# Altium schematic symbol library con-phoenix-350.SCHLIB: 23 symbols
Pins are listed as number, name and electrical type; pins without a type are passive.

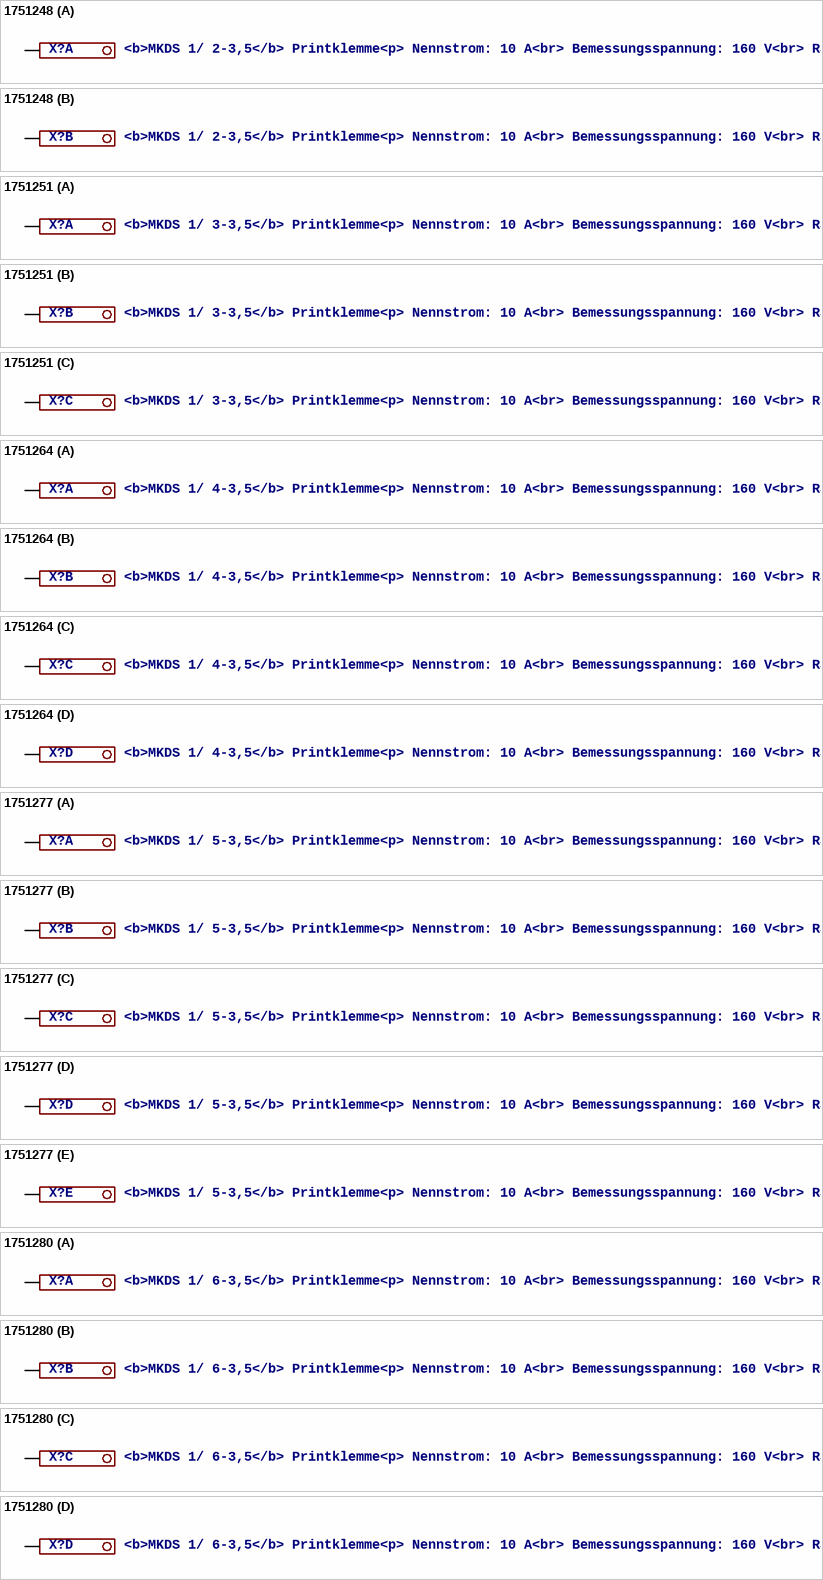
[diagram p0: symbols 1751248 to 1751280]

## 1751248
designator X?, comment <b>MKDS 1/ 2-3,5</b> Printklemme<p> / Nennstrom: 10 A<br> / Bemessungsspannung: 160 V<br> / Raster: 3,5 mm<br> / Polzahl: 2<br> / Montageart: Löten<br> / Anschlussart: Schraubanschluss<br> / Anschlussrichtung vom Leiter zur Platine: 0°<br> / Source: http://eshop.phoenixcontact.com .. 1751248.pdf
OC_FARNELL: unknown; OC_NEWARK: unknown
footprint 1751248
part A pins: 1 K
part B pins: 2 K

## 1751251
designator X?, comment <b>MKDS 1/ 3-3,5</b> Printklemme<p> / Nennstrom: 10 A<br> / Bemessungsspannung: 160 V<br> / Raster: 3,5 mm<br> / Polzahl: 3<br> / Montageart: Löten<br> / Anschlussart: Schraubanschluss<br> / Anschlussrichtung vom Leiter zur Platine: 0°<br> / Source: http://eshop.phoenixcontact.com .. 1751251.pdf
OC_FARNELL: unknown; OC_NEWARK: unknown
footprint 1751251
part A pins: 1 K
part B pins: 2 K
part C pins: 3 K

## 1751264
designator X?, comment <b>MKDS 1/ 4-3,5</b> Printklemme<p> / Nennstrom: 10 A<br> / Bemessungsspannung: 160 V<br> / Raster: 3,5 mm<br> / Polzahl: 4<br> / Montageart: Löten<br> / Anschlussart: Schraubanschluss<br> / Anschlussrichtung vom Leiter zur Platine: 0°<br> / Source: http://eshop.phoenixcontact.com .. 1751264.pdf
MPN: 1751264; OC_FARNELL: unknown; OC_NEWARK: 10R0934
footprint 1751264
part A pins: 1 K
part B pins: 2 K
part C pins: 3 K
part D pins: 4 K

## 1751277
designator X?, comment <b>MKDS 1/ 5-3,5</b> Printklemme<p> / Nennstrom: 10 A<br> / Bemessungsspannung: 160 V<br> / Raster: 3,5 mm<br> / Polzahl: 5<br> / Montageart: Löten<br> / Anschlussart: Schraubanschluss<br> / Anschlussrichtung vom Leiter zur Platine: 0°<br> / Source: http://eshop.phoenixcontact.com .. 1751277.pdf
OC_FARNELL: unknown; OC_NEWARK: unknown
footprint 1751277
part A pins: 1 K
part B pins: 2 K
part C pins: 3 K
part D pins: 4 K
part E pins: 5 K

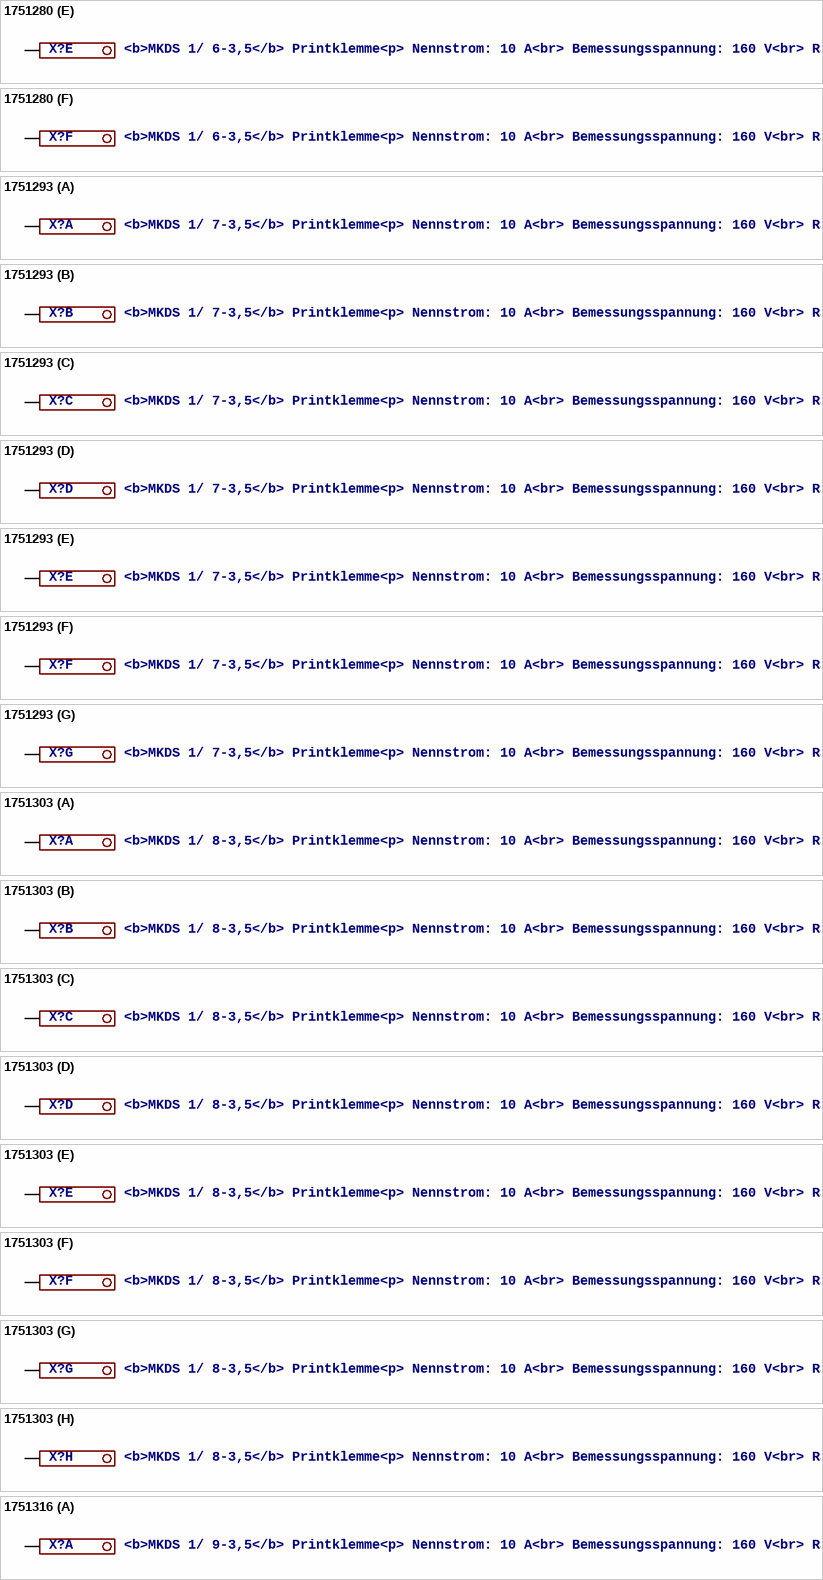
[diagram p1: symbols 1751280 to 1751316]

## 1751280
designator X?, comment <b>MKDS 1/ 6-3,5</b> Printklemme<p> / Nennstrom: 10 A<br> / Bemessungsspannung: 160 V<br> / Raster: 3,5 mm<br> / Polzahl: 6<br> / Montageart: Löten<br> / Anschlussart: Schraubanschluss<br> / Anschlussrichtung vom Leiter zur Platine: 0°<br> / Source: http://eshop.phoenixcontact.com .. 1751280.pdf
MPN: 1751280; OC_FARNELL: unknown; OC_NEWARK: 27R1765
footprint 1751280
part A pins: 1 K
part B pins: 2 K
part C pins: 3 K
part D pins: 4 K
part E pins: 5 K
part F pins: 6 K

## 1751293
designator X?, comment <b>MKDS 1/ 7-3,5</b> Printklemme<p> / Nennstrom: 10 A<br> / Bemessungsspannung: 160 V<br> / Raster: 3,5 mm<br> / Polzahl: 7<br> / Montageart: Löten<br> / Anschlussart: Schraubanschluss<br> / Anschlussrichtung vom Leiter zur Platine: 0°<br> / Source: http://eshop.phoenixcontact.com .. 1751293.pdf
OC_FARNELL: unknown; OC_NEWARK: unknown
footprint 1751293
part A pins: 1 K
part B pins: 2 K
part C pins: 3 K
part D pins: 4 K
part E pins: 5 K
part F pins: 6 K
part G pins: 7 K

## 1751303
designator X?, comment <b>MKDS 1/ 8-3,5</b> Printklemme<p> / Nennstrom: 10 A<br> / Bemessungsspannung: 160 V<br> / Raster: 3,5 mm<br> / Polzahl: 8<br> / Montageart: Löten<br> / Anschlussart: Schraubanschluss<br> / Anschlussrichtung vom Leiter zur Platine: 0°<br> / Source: http://eshop.phoenixcontact.com .. .pdf
OC_FARNELL: unknown; OC_NEWARK: unknown
footprint 1751303
part A pins: 1 K
part B pins: 2 K
part C pins: 3 K
part D pins: 4 K
part E pins: 5 K
part F pins: 6 K
part G pins: 7 K
part H pins: 8 K

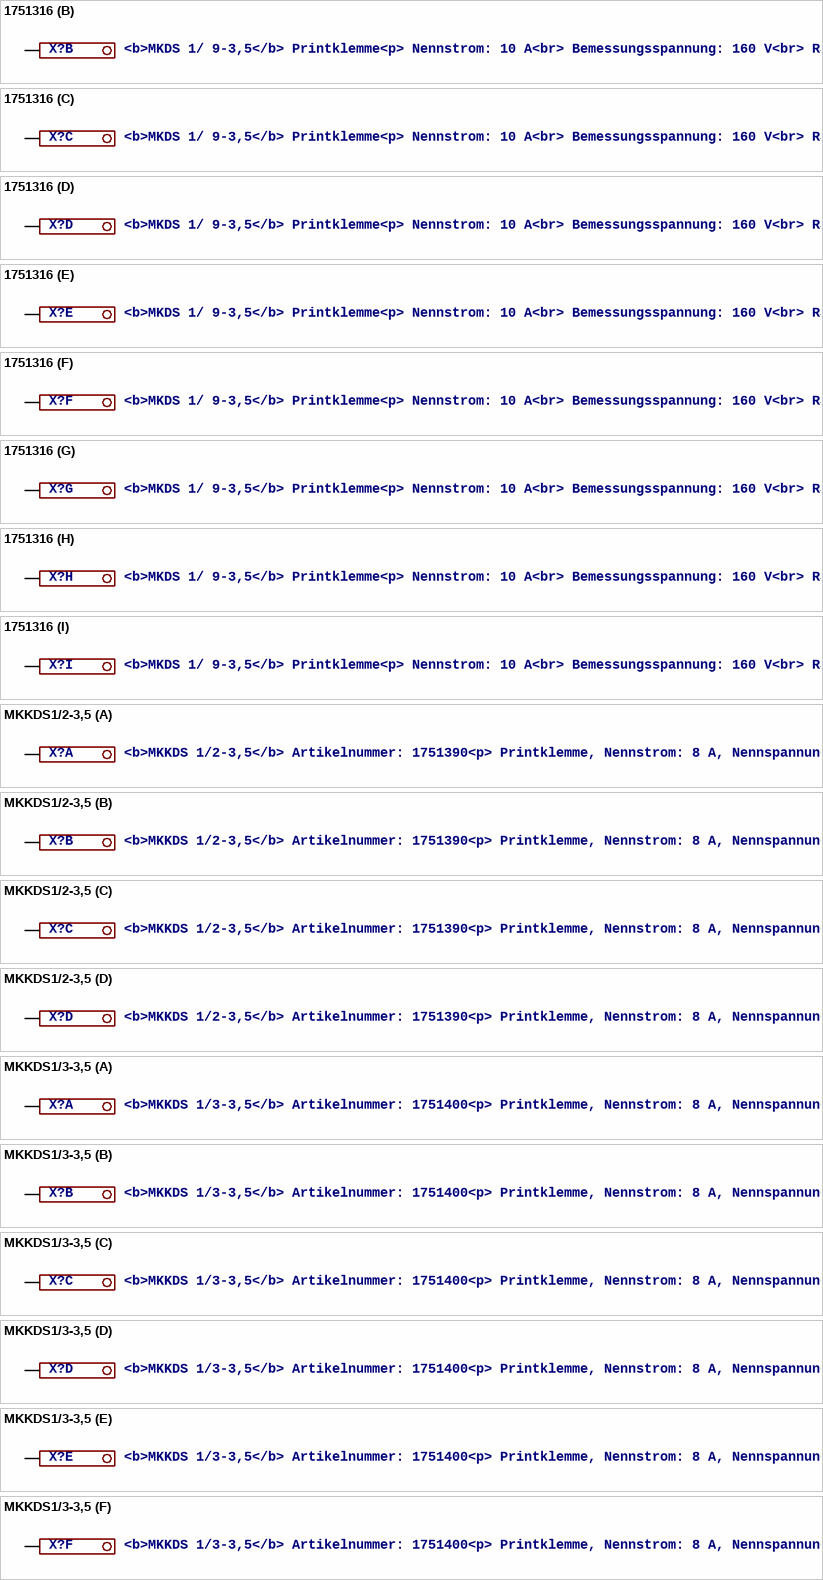
[diagram p2: symbols 1751316 to MKKDS1/3-3,5]

## 1751316
designator X?, comment <b>MKDS 1/ 9-3,5</b> Printklemme<p> / Nennstrom: 10 A<br> / Bemessungsspannung: 160 V<br> / Raster: 3,5 mm<br> / Polzahl: 9<br> / Montageart: Löten<br> / Anschlussart: Schraubanschluss<br> / Anschlussrichtung vom Leiter zur Platine: 0°<br> / Source: http://eshop.phoenixcontact.com .. 1751316.pdf
OC_FARNELL: unknown; OC_NEWARK: unknown
footprint 1751316
part A pins: 1 K
part B pins: 2 K
part C pins: 3 K
part D pins: 4 K
part E pins: 5 K
part F pins: 6 K
part G pins: 7 K
part H pins: 8 K
part I pins: 9 K

## MKKDS1/2-3,5
designator X?, comment <b>MKKDS 1/2-3,5</b> Artikelnummer: 1751390<p> / Printklemme, Nennstrom: 8 A, Nennspannung: 200 V, Rastermaß: 3,5 mm, Polzahl: 13<br> / Anschlussart: Schraubanschluss, Montage: Löten, Anschlussrichtung Leiter/Platine: 0 °, Farbe: grün<br> / <a href="http://www.phoenixcontact.de/"> Home page </a> / <b>MKKDS 1/ 2-3,5</b> 1751390
footprint MKKDS1/2-3,5
part A pins: 1 K
part B pins: 2 K
part C pins: 3 K
part D pins: 4 K

## MKKDS1/3-3,5
designator X?, comment <b>MKKDS 1/3-3,5</b> Artikelnummer: 1751400<p> / Printklemme, Nennstrom: 8 A, Nennspannung: 200 V, Rastermaß: 3,5 mm, Polzahl: 13<br> / Anschlussart: Schraubanschluss, Montage: Löten, Anschlussrichtung Leiter/Platine: 0 °, Farbe: grün<br> / <a href="http://www.phoenixcontact.de/"> Home page </a>
footprint MKKDS1/3-3,5
part A pins: 1 K
part B pins: 2 K
part C pins: 3 K
part D pins: 4 K
part E pins: 5 K
part F pins: 6 K

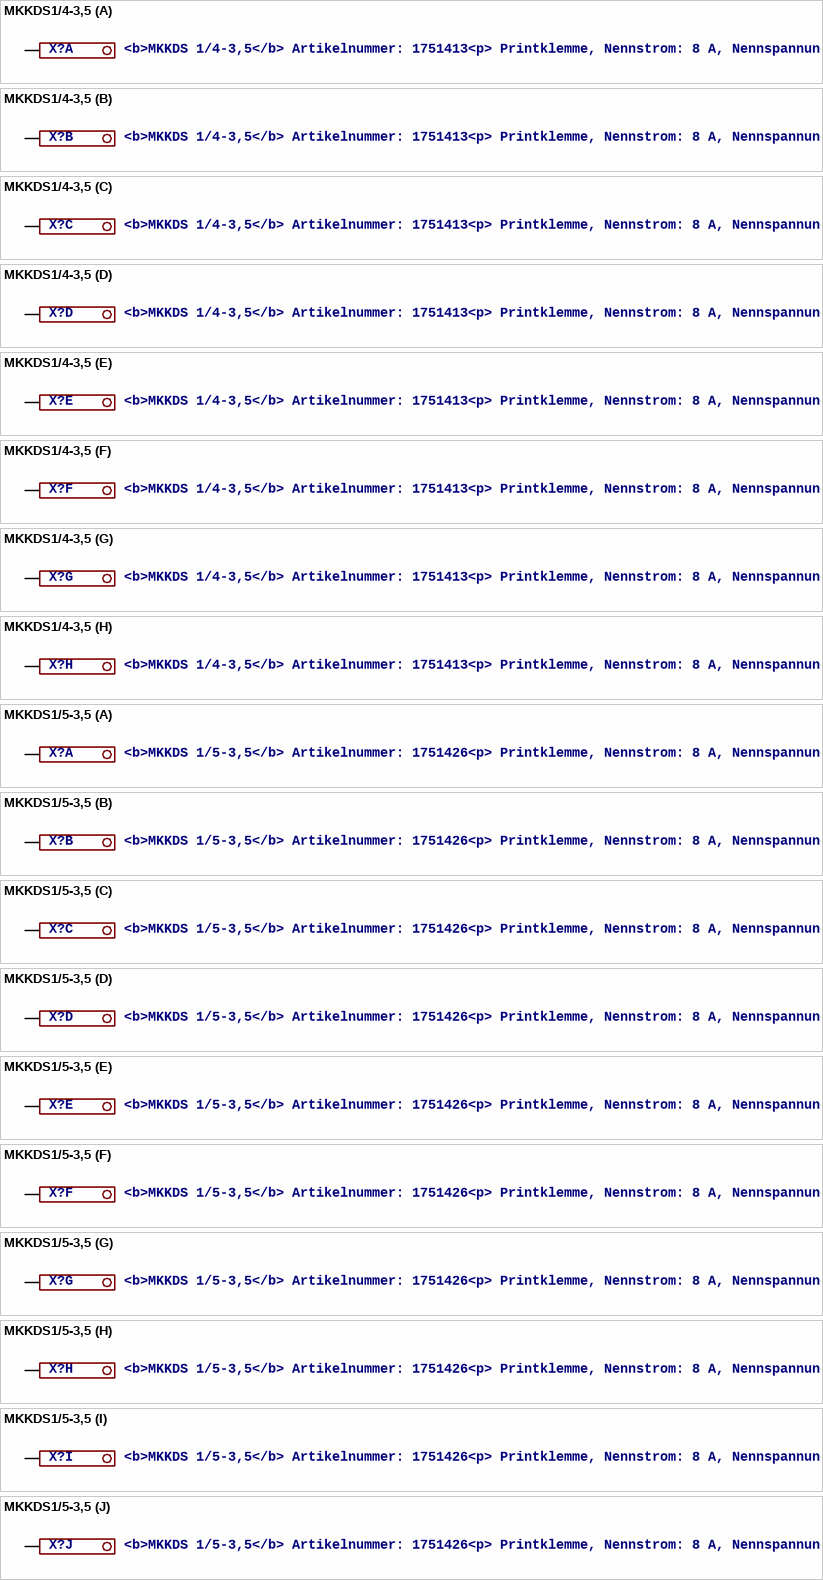
[diagram p3: symbols MKKDS1/4-3,5 to MKKDS1/5-3,5]

## MKKDS1/4-3,5
designator X?, comment <b>MKKDS 1/4-3,5</b> Artikelnummer: 1751413<p> / Printklemme, Nennstrom: 8 A, Nennspannung: 200 V, Rastermaß: 3,5 mm, Polzahl: 13<br> / Anschlussart: Schraubanschluss, Montage: Löten, Anschlussrichtung Leiter/Platine: 0 °, Farbe: grün<br> / <a href="http://www.phoenixcontact.de/"> Home page </a>
footprint MKKDS1/4-3,5
part A pins: 1 K
part B pins: 2 K
part C pins: 3 K
part D pins: 4 K
part E pins: 5 K
part F pins: 6 K
part G pins: 7 K
part H pins: 8 K

## MKKDS1/5-3,5
designator X?, comment <b>MKKDS 1/5-3,5</b> Artikelnummer: 1751426<p> / Printklemme, Nennstrom: 8 A, Nennspannung: 200 V, Rastermaß: 3,5 mm, Polzahl: 13<br> / Anschlussart: Schraubanschluss, Montage: Löten, Anschlussrichtung Leiter/Platine: 0 °, Farbe: grün<br> / <a href="http://www.phoenixcontact.de/"> Home page </a>
footprint MKKDS1/5-3,5
part A pins: 1 K
part B pins: 2 K
part C pins: 3 K
part D pins: 4 K
part E pins: 5 K
part F pins: 6 K
part G pins: 7 K
part H pins: 8 K
part I pins: 9 K
part J pins: 10 K

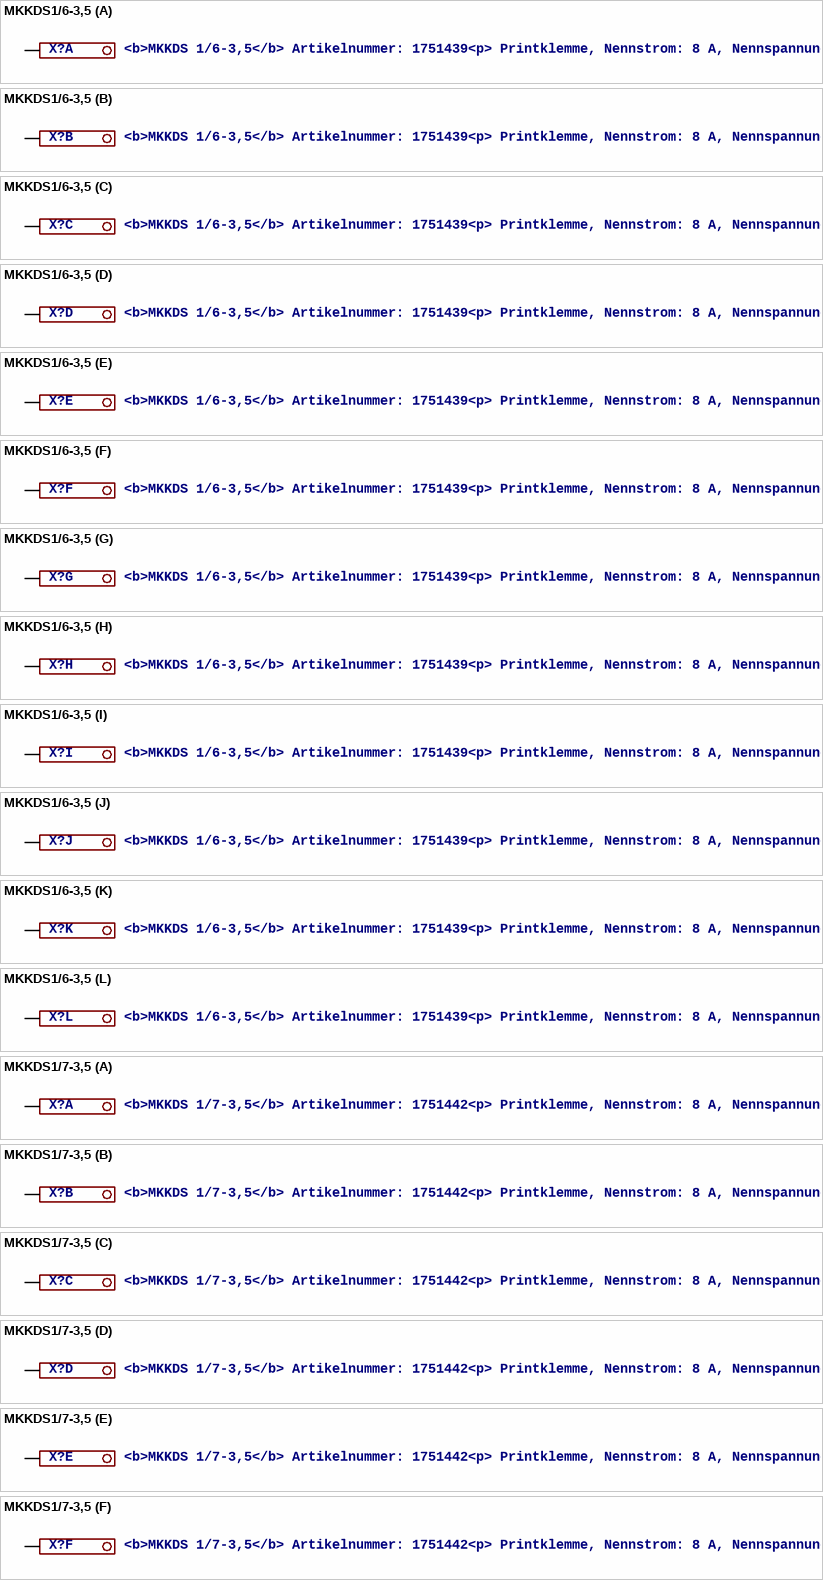
[diagram p4: symbols MKKDS1/6-3,5 to MKKDS1/7-3,5]

## MKKDS1/6-3,5
designator X?, comment <b>MKKDS 1/6-3,5</b> Artikelnummer: 1751439<p> / Printklemme, Nennstrom: 8 A, Nennspannung: 200 V, Rastermaß: 3,5 mm, Polzahl: 13<br> / Anschlussart: Schraubanschluss, Montage: Löten, Anschlussrichtung Leiter/Platine: 0 °, Farbe: grün<br> / <a href="http://www.phoenixcontact.de/"> Home page </a>
footprint MKKDS1/6-3,5
part A pins: 1 K
part B pins: 2 K
part C pins: 3 K
part D pins: 4 K
part E pins: 5 K
part F pins: 6 K
part G pins: 7 K
part H pins: 8 K
part I pins: 9 K
part J pins: 10 K
part K pins: 11 K
part L pins: 12 K

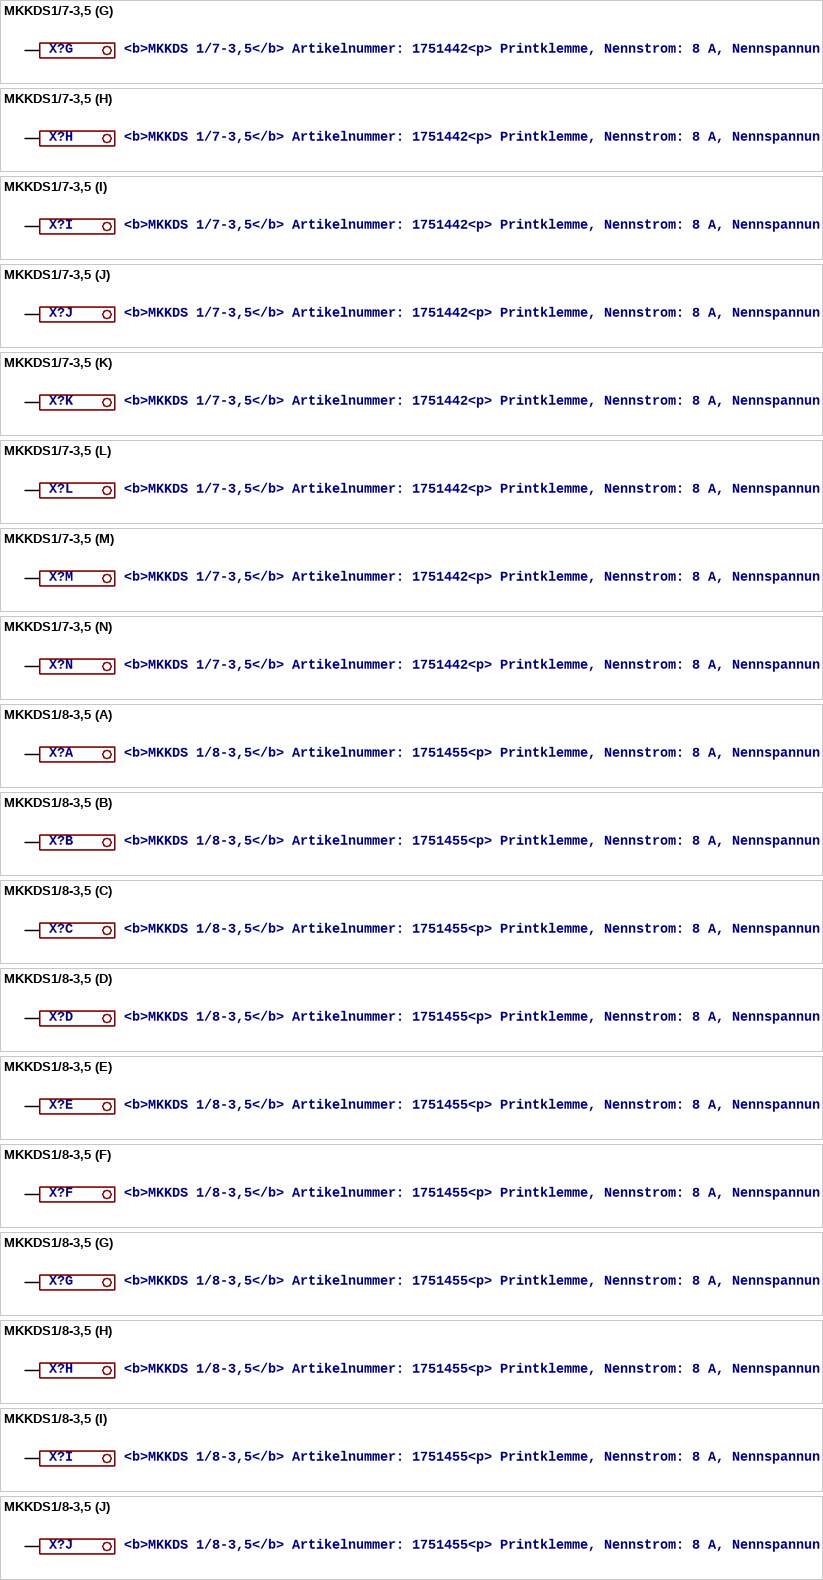
[diagram p5: symbols MKKDS1/7-3,5 to MKKDS1/8-3,5]

## MKKDS1/7-3,5
designator X?, comment <b>MKKDS 1/7-3,5</b> Artikelnummer: 1751442<p> / Printklemme, Nennstrom: 8 A, Nennspannung: 200 V, Rastermaß: 3,5 mm, Polzahl: 13<br> / Anschlussart: Schraubanschluss, Montage: Löten, Anschlussrichtung Leiter/Platine: 0 °, Farbe: grün<br> / <a href="http://www.phoenixcontact.de/"> Home page </a>
footprint MKKDS1/7-3,5
part A pins: 1 K
part B pins: 2 K
part C pins: 3 K
part D pins: 4 K
part E pins: 5 K
part F pins: 6 K
part G pins: 7 K
part H pins: 8 K
part I pins: 9 K
part J pins: 10 K
part K pins: 11 K
part L pins: 12 K
part M pins: 13 K
part N pins: 14 K

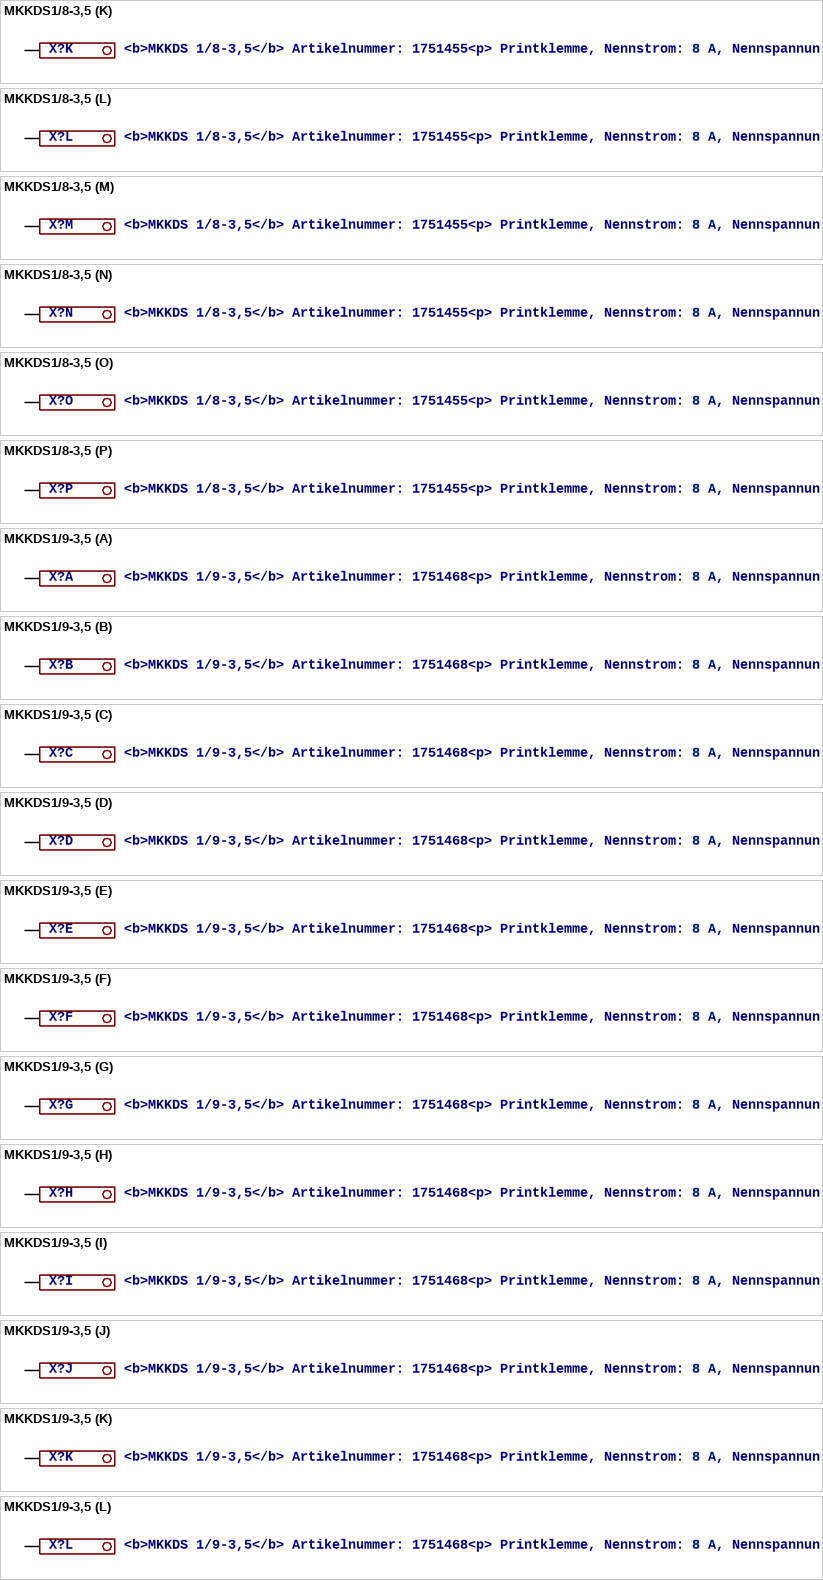
[diagram p6: symbols MKKDS1/8-3,5 to MKKDS1/9-3,5]

## MKKDS1/8-3,5
designator X?, comment <b>MKKDS 1/8-3,5</b> Artikelnummer: 1751455<p> / Printklemme, Nennstrom: 8 A, Nennspannung: 200 V, Rastermaß: 3,5 mm, Polzahl: 13<br> / Anschlussart: Schraubanschluss, Montage: Löten, Anschlussrichtung Leiter/Platine: 0 °, Farbe: grün<br> / <a href="http://www.phoenixcontact.de/"> Home page </a>
footprint MKKDS1/8-3,5
part A pins: 1 K
part B pins: 2 K
part C pins: 3 K
part D pins: 4 K
part E pins: 5 K
part F pins: 6 K
part G pins: 7 K
part H pins: 8 K
part I pins: 9 K
part J pins: 10 K
part K pins: 11 K
part L pins: 12 K
part M pins: 13 K
part N pins: 14 K
part O pins: 15 K
part P pins: 16 K

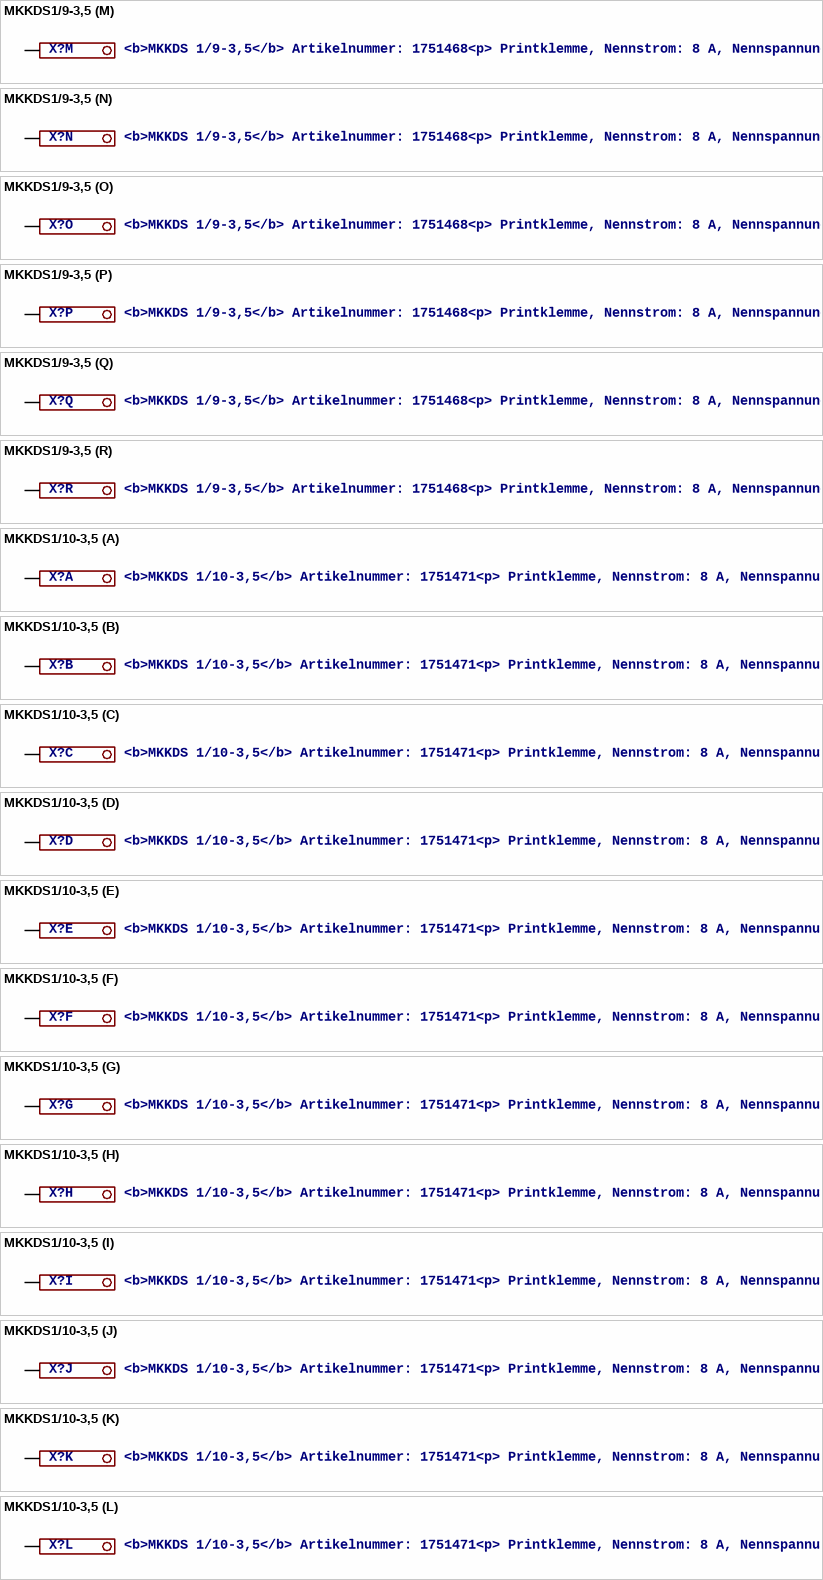
[diagram p7: symbols MKKDS1/9-3,5 to MKKDS1/10-3,5]

## MKKDS1/9-3,5
designator X?, comment <b>MKKDS 1/9-3,5</b> Artikelnummer: 1751468<p> / Printklemme, Nennstrom: 8 A, Nennspannung: 200 V, Rastermaß: 3,5 mm, Polzahl: 13<br> / Anschlussart: Schraubanschluss, Montage: Löten, Anschlussrichtung Leiter/Platine: 0 °, Farbe: grün<br> / <a href="http://www.phoenixcontact.de/"> Home page </a>
footprint MKKDS1/9-3,5
part A pins: 1 K
part B pins: 2 K
part C pins: 3 K
part D pins: 4 K
part E pins: 5 K
part F pins: 6 K
part G pins: 7 K
part H pins: 8 K
part I pins: 9 K
part J pins: 10 K
part K pins: 11 K
part L pins: 12 K
part M pins: 13 K
part N pins: 14 K
part O pins: 15 K
part P pins: 16 K
part Q pins: 17 K
part R pins: 18 K

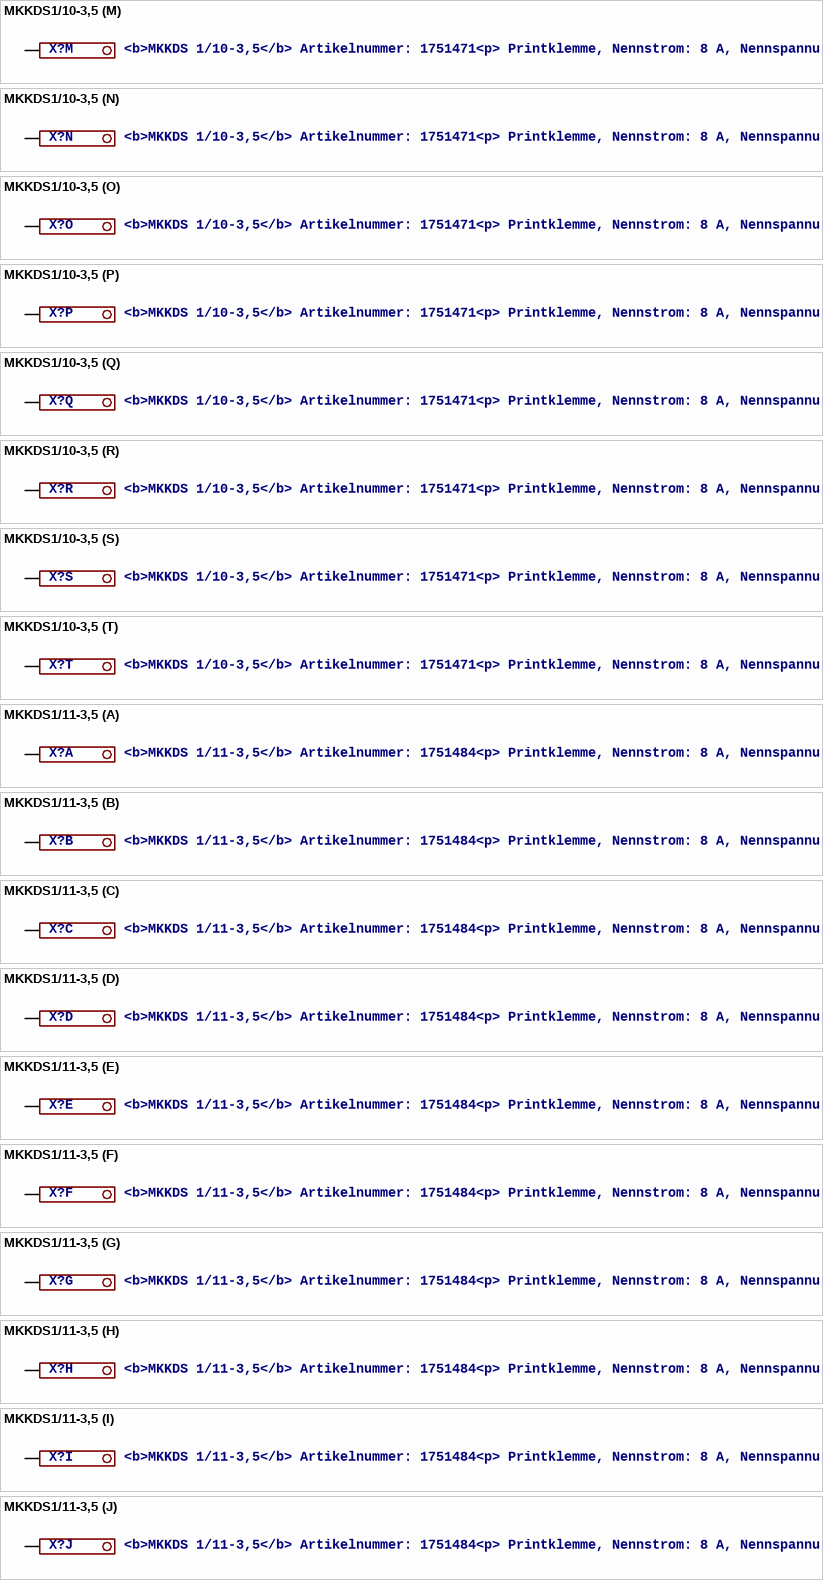
[diagram p8: symbols MKKDS1/10-3,5 to MKKDS1/11-3,5]

## MKKDS1/10-3,5
designator X?, comment <b>MKKDS 1/10-3,5</b> Artikelnummer: 1751471<p> / Printklemme, Nennstrom: 8 A, Nennspannung: 200 V, Rastermaß: 3,5 mm, Polzahl: 13<br> / Anschlussart: Schraubanschluss, Montage: Löten, Anschlussrichtung Leiter/Platine: 0 °, Farbe: grün<br> / <a href="http://www.phoenixcontact.de/"> Home page </a>
footprint MKKDS1/10-3,5
part A pins: 1 K
part B pins: 2 K
part C pins: 3 K
part D pins: 4 K
part E pins: 5 K
part F pins: 6 K
part G pins: 7 K
part H pins: 8 K
part I pins: 9 K
part J pins: 10 K
part K pins: 11 K
part L pins: 12 K
part M pins: 13 K
part N pins: 14 K
part O pins: 15 K
part P pins: 16 K
part Q pins: 17 K
part R pins: 18 K
part S pins: 19 K
part T pins: 20 K

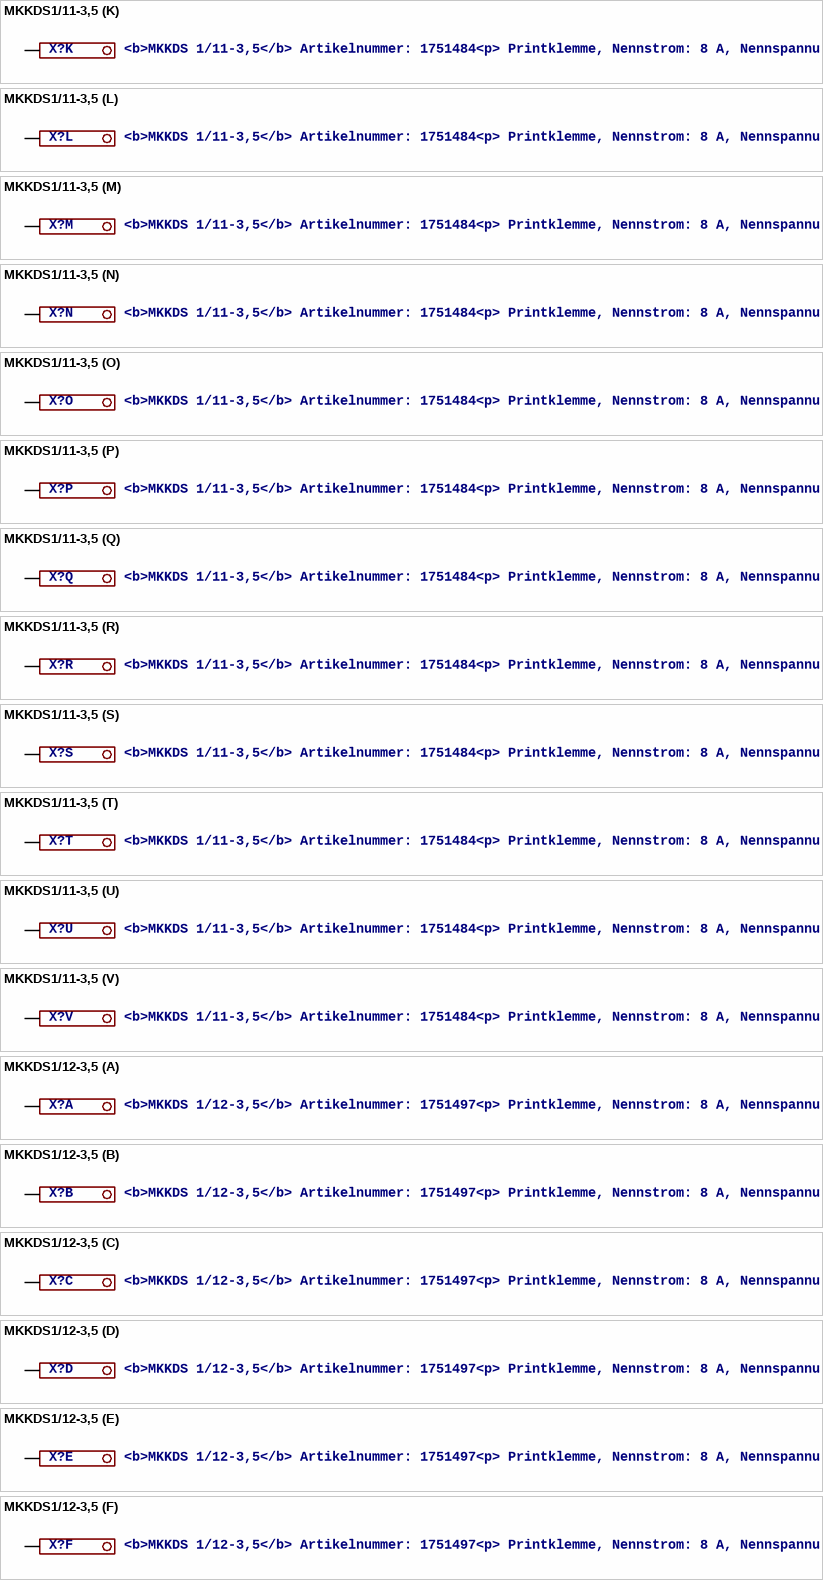
[diagram p9: symbols MKKDS1/11-3,5 to MKKDS1/12-3,5]

## MKKDS1/11-3,5
designator X?, comment <b>MKKDS 1/11-3,5</b> Artikelnummer: 1751484<p> / Printklemme, Nennstrom: 8 A, Nennspannung: 200 V, Rastermaß: 3,5 mm, Polzahl: 11<br> / Anschlussart: Schraubanschluss, Montage: Löten, Anschlussrichtung Leiter/Platine: 0 °, Farbe: grün<br> / <a href="http://www.phoenixcontact.de/"> Home page </a>
footprint MKKDS1/11-3,5
part A pins: 1 K
part B pins: 2 K
part C pins: 3 K
part D pins: 4 K
part E pins: 5 K
part F pins: 6 K
part G pins: 7 K
part H pins: 8 K
part I pins: 9 K
part J pins: 10 K
part K pins: 11 K
part L pins: 12 K
part M pins: 13 K
part N pins: 14 K
part O pins: 15 K
part P pins: 16 K
part Q pins: 17 K
part R pins: 18 K
part S pins: 19 K
part T pins: 20 K
part U pins: 21 K
part V pins: 22 K

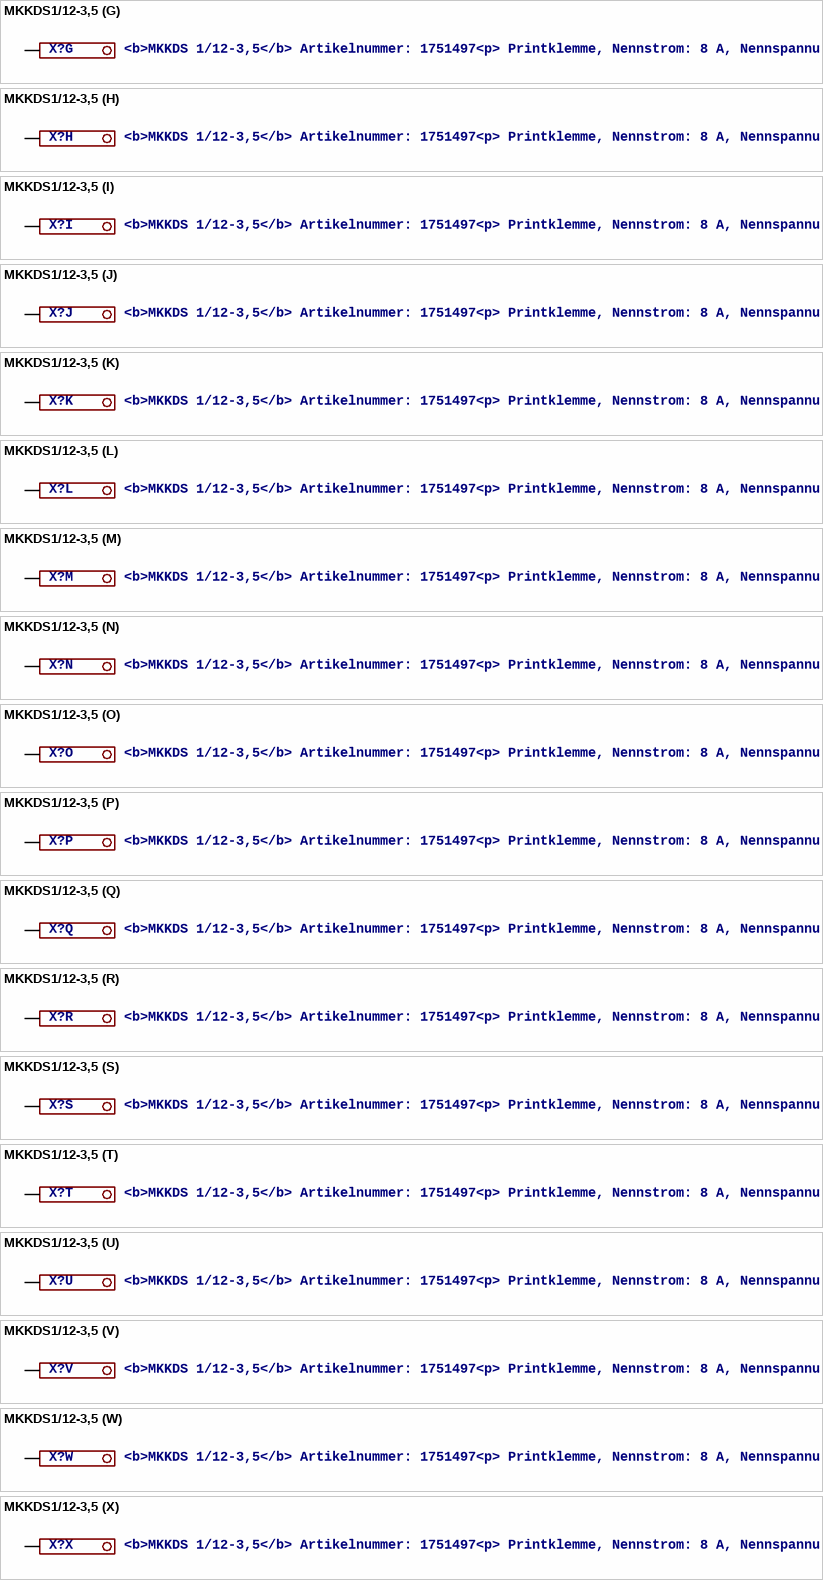
[diagram p10: symbol MKKDS1/12-3,5]

## MKKDS1/12-3,5
designator X?, comment <b>MKKDS 1/12-3,5</b> Artikelnummer: 1751497<p> / Printklemme, Nennstrom: 8 A, Nennspannung: 200 V, Rastermaß: 3,5 mm, Polzahl: 13<br> / Anschlussart: Schraubanschluss, Montage: Löten, Anschlussrichtung Leiter/Platine: 0 °, Farbe: grün<br> / <a href="http://www.phoenixcontact.de/"> Home page </a>
footprint MKKDS1/12-3,5
part A pins: 1 K
part B pins: 2 K
part C pins: 3 K
part D pins: 4 K
part E pins: 5 K
part F pins: 6 K
part G pins: 7 K
part H pins: 8 K
part I pins: 9 K
part J pins: 10 K
part K pins: 11 K
part L pins: 12 K
part M pins: 13 K
part N pins: 14 K
part O pins: 15 K
part P pins: 16 K
part Q pins: 17 K
part R pins: 18 K
part S pins: 19 K
part T pins: 20 K
part U pins: 21 K
part V pins: 22 K
part W pins: 23 K
part X pins: 24 K

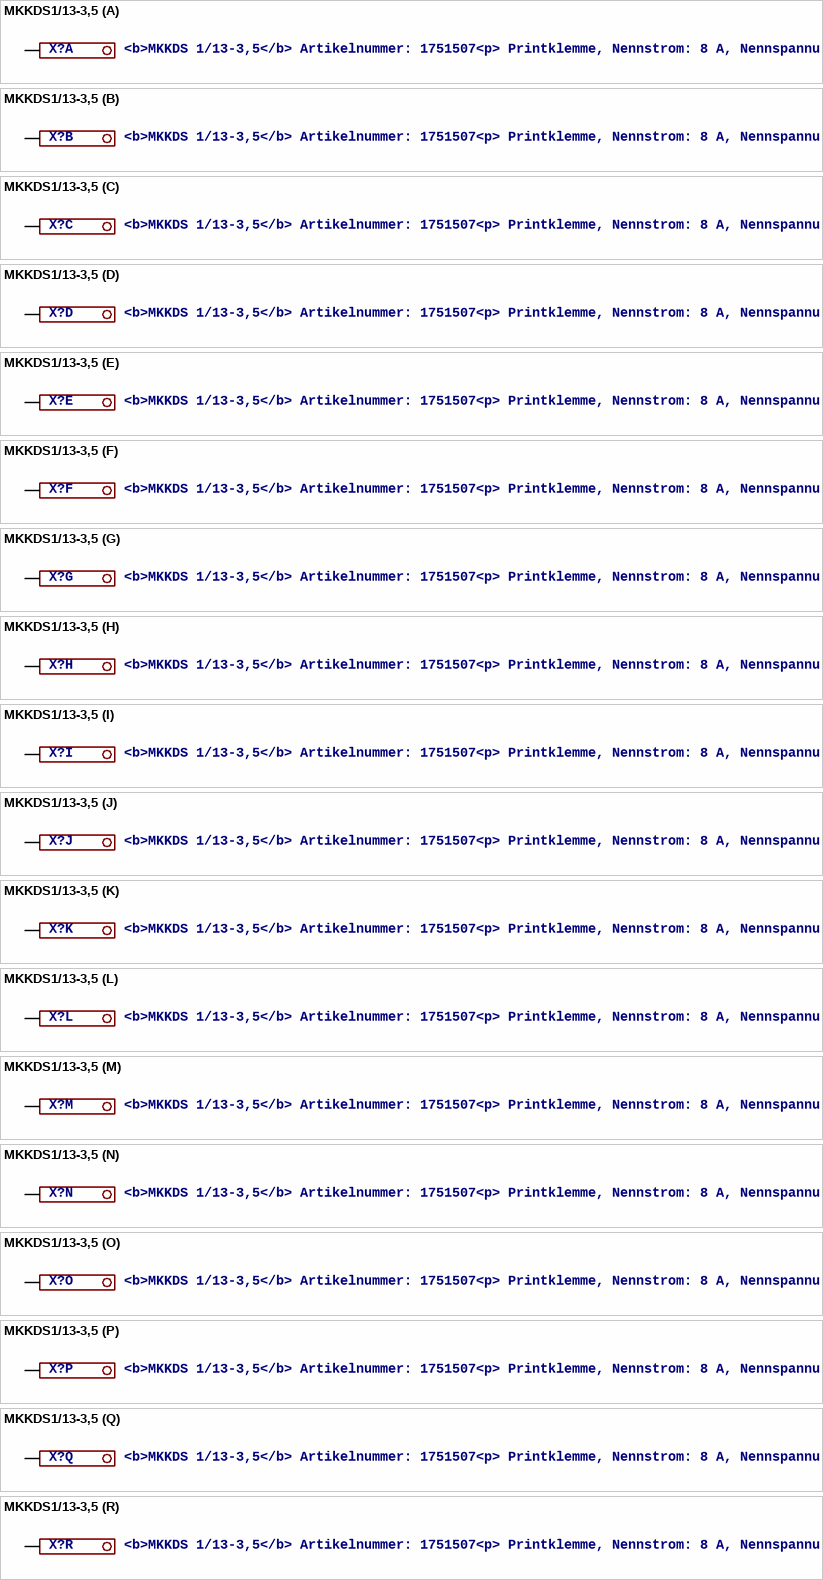
[diagram p11: symbol MKKDS1/13-3,5]

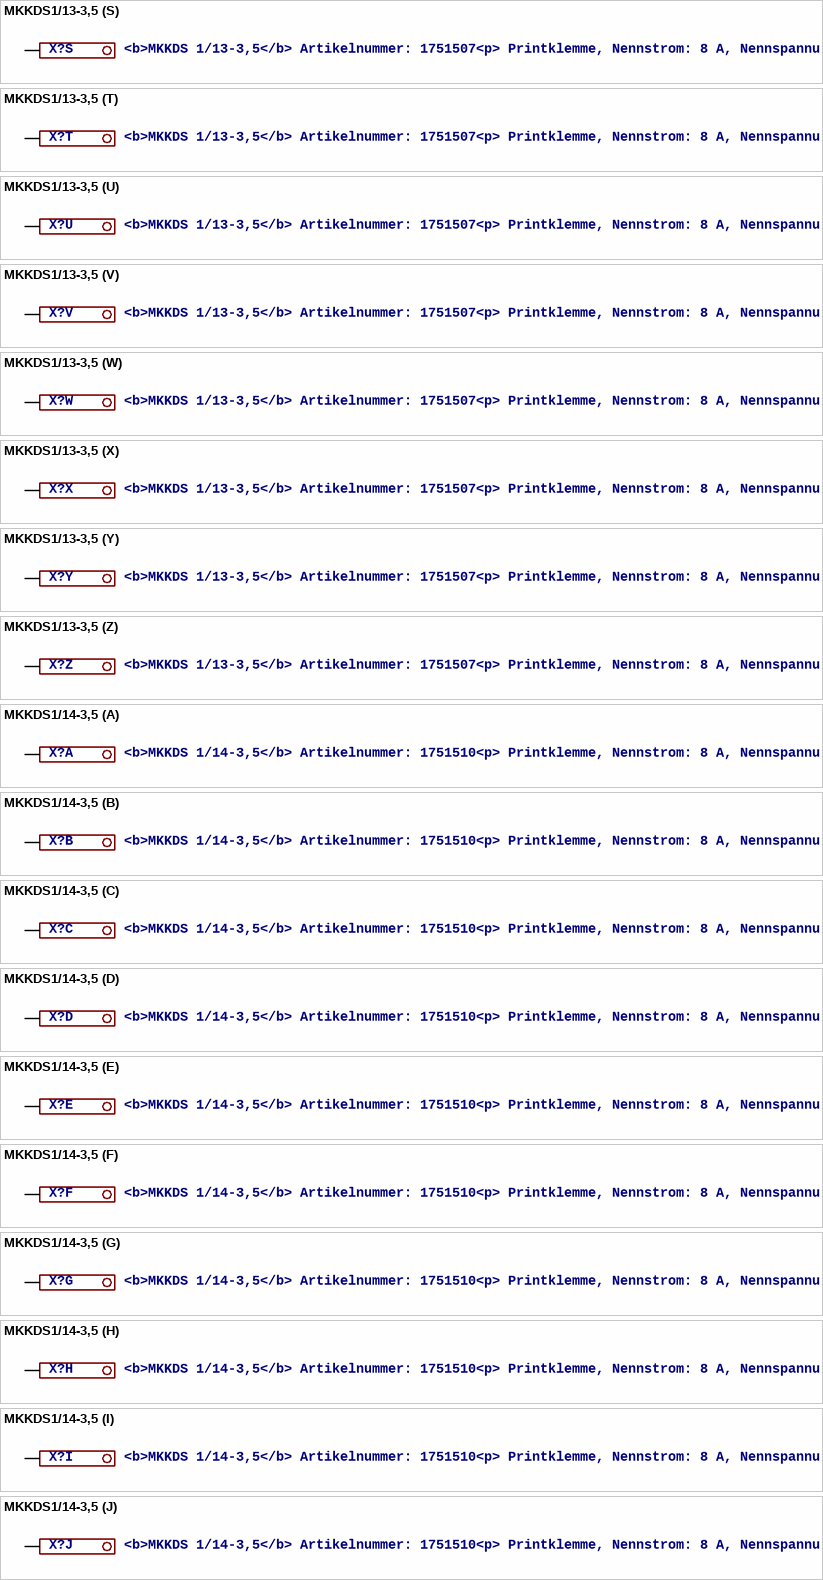
[diagram p12: symbols MKKDS1/13-3,5 to MKKDS1/14-3,5]

## MKKDS1/13-3,5
designator X?, comment <b>MKKDS 1/13-3,5</b> Artikelnummer: 1751507<p> / Printklemme, Nennstrom: 8 A, Nennspannung: 200 V, Rastermaß: 3,5 mm, Polzahl: 13<br> / Anschlussart: Schraubanschluss, Montage: Löten, Anschlussrichtung Leiter/Platine: 0 °, Farbe: grün<br> / <a href="http://www.phoenixcontact.de/"> Home page </a>
footprint MKKDS1/13-3,5
part A pins: 1 K
part B pins: 2 K
part C pins: 3 K
part D pins: 4 K
part E pins: 5 K
part F pins: 6 K
part G pins: 7 K
part H pins: 8 K
part I pins: 9 K
part J pins: 10 K
part K pins: 11 K
part L pins: 12 K
part M pins: 13 K
part N pins: 14 K
part O pins: 15 K
part P pins: 16 K
part Q pins: 17 K
part R pins: 18 K
part S pins: 19 K
part T pins: 20 K
part U pins: 21 K
part V pins: 22 K
part W pins: 23 K
part X pins: 24 K
part Y pins: 25 K
part Z pins: 26 K

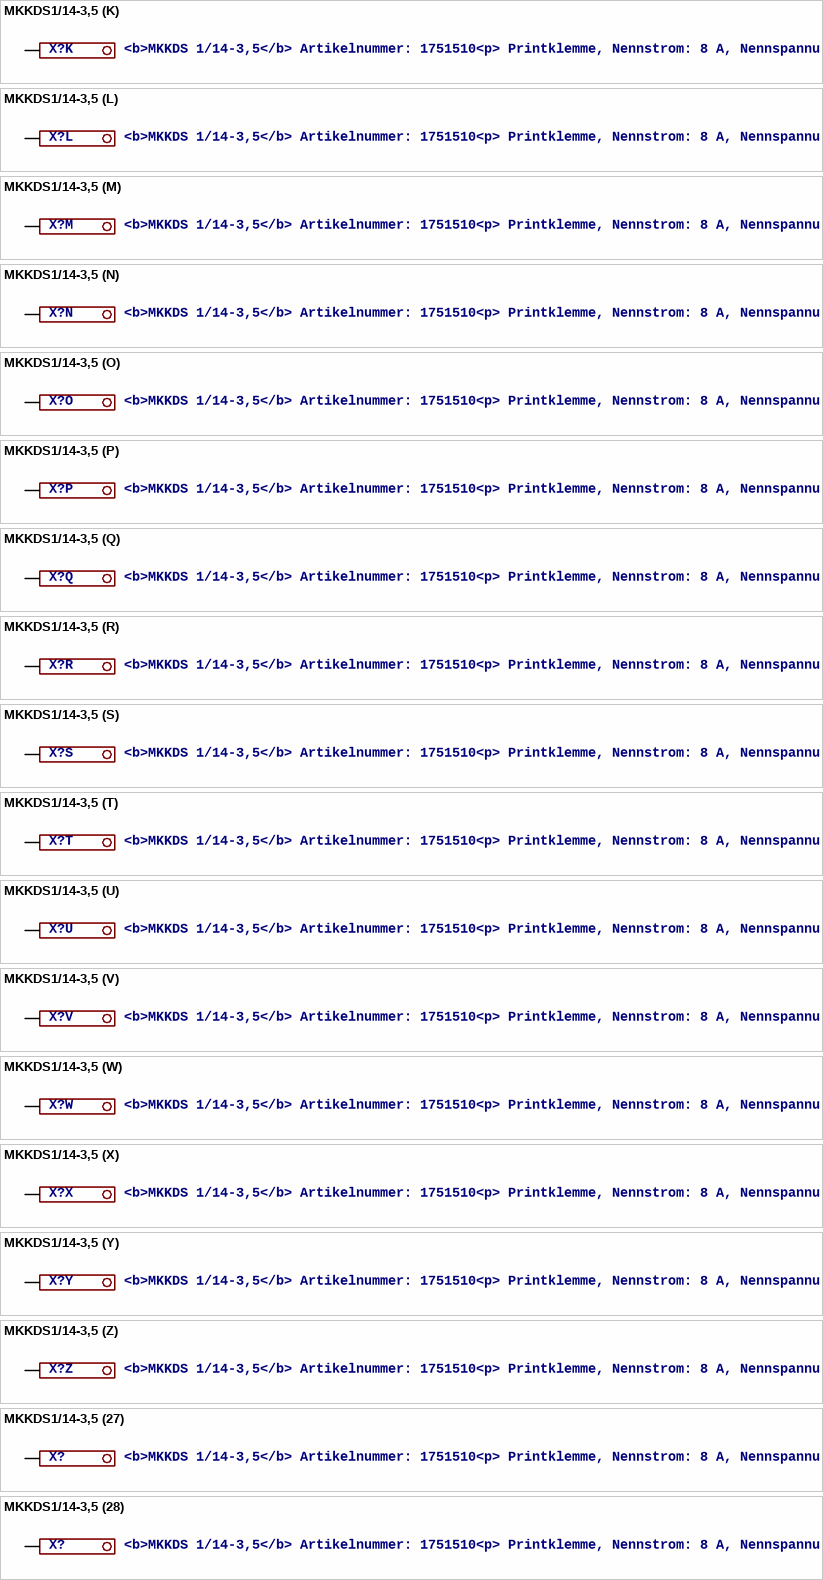
[diagram p13: symbol MKKDS1/14-3,5]

## MKKDS1/14-3,5
designator X?, comment <b>MKKDS 1/14-3,5</b> Artikelnummer: 1751510<p> / Printklemme, Nennstrom: 8 A, Nennspannung: 200 V, Rastermaß: 3,5 mm, Polzahl: 13<br> / Anschlussart: Schraubanschluss, Montage: Löten, Anschlussrichtung Leiter/Platine: 0 °, Farbe: grün<br> / <a href="http://www.phoenixcontact.de/"> Home page </a>
footprint MKKDS1/14-3,5
part A pins: 1 K
part B pins: 2 K
part C pins: 3 K
part D pins: 4 K
part E pins: 5 K
part F pins: 6 K
part G pins: 7 K
part H pins: 8 K
part I pins: 9 K
part J pins: 10 K
part K pins: 11 K
part L pins: 12 K
part M pins: 13 K
part N pins: 14 K
part O pins: 15 K
part P pins: 16 K
part Q pins: 17 K
part R pins: 18 K
part S pins: 19 K
part T pins: 20 K
part U pins: 21 K
part V pins: 22 K
part W pins: 23 K
part X pins: 24 K
part Y pins: 25 K
part Z pins: 26 K
part 27 pins: 27 K
part 28 pins: 28 K

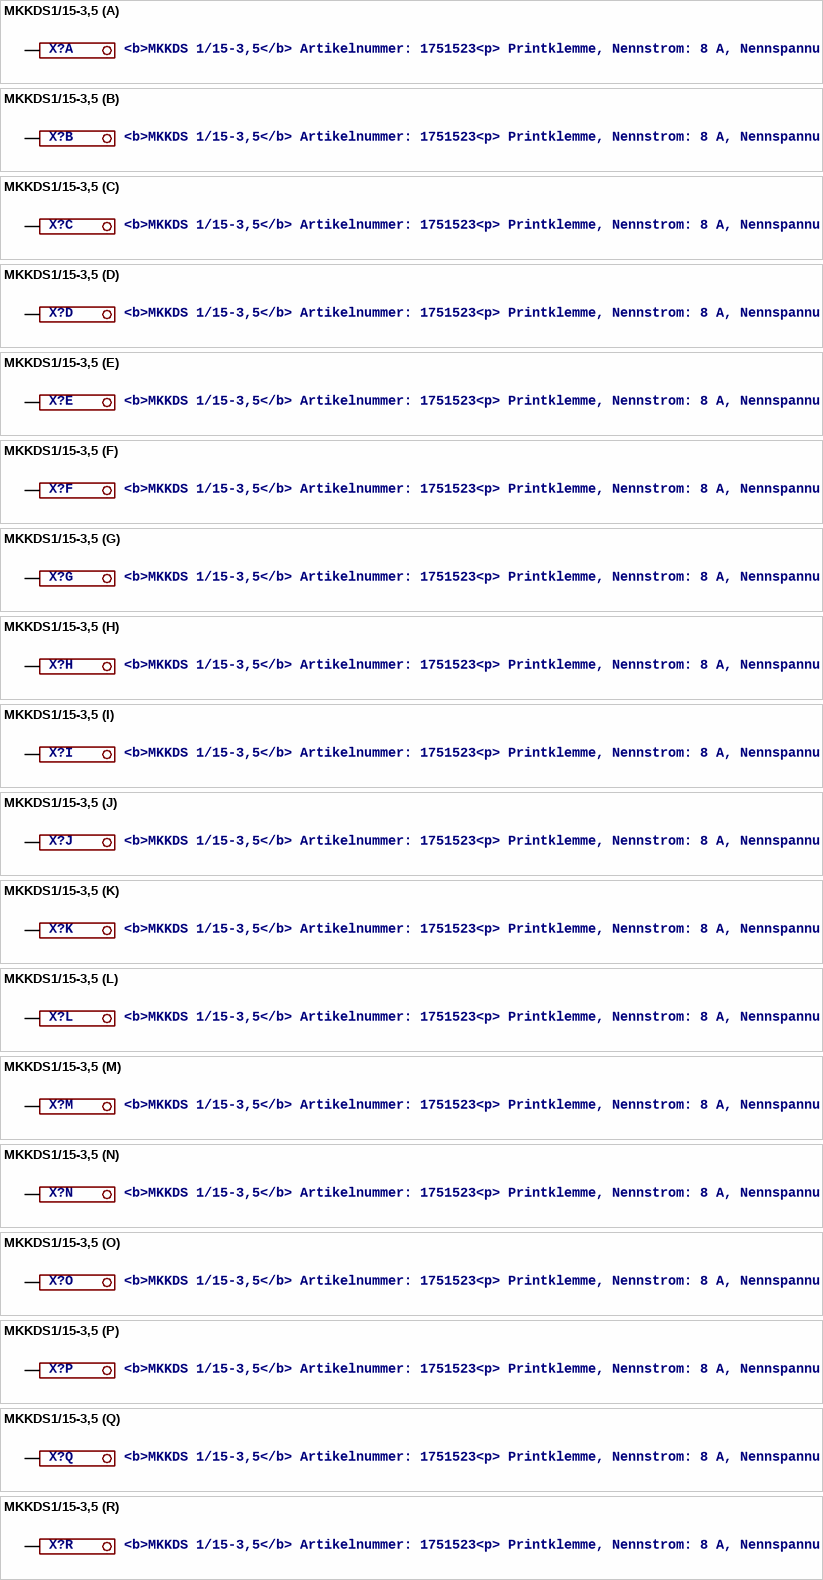
[diagram p14: symbol MKKDS1/15-3,5]

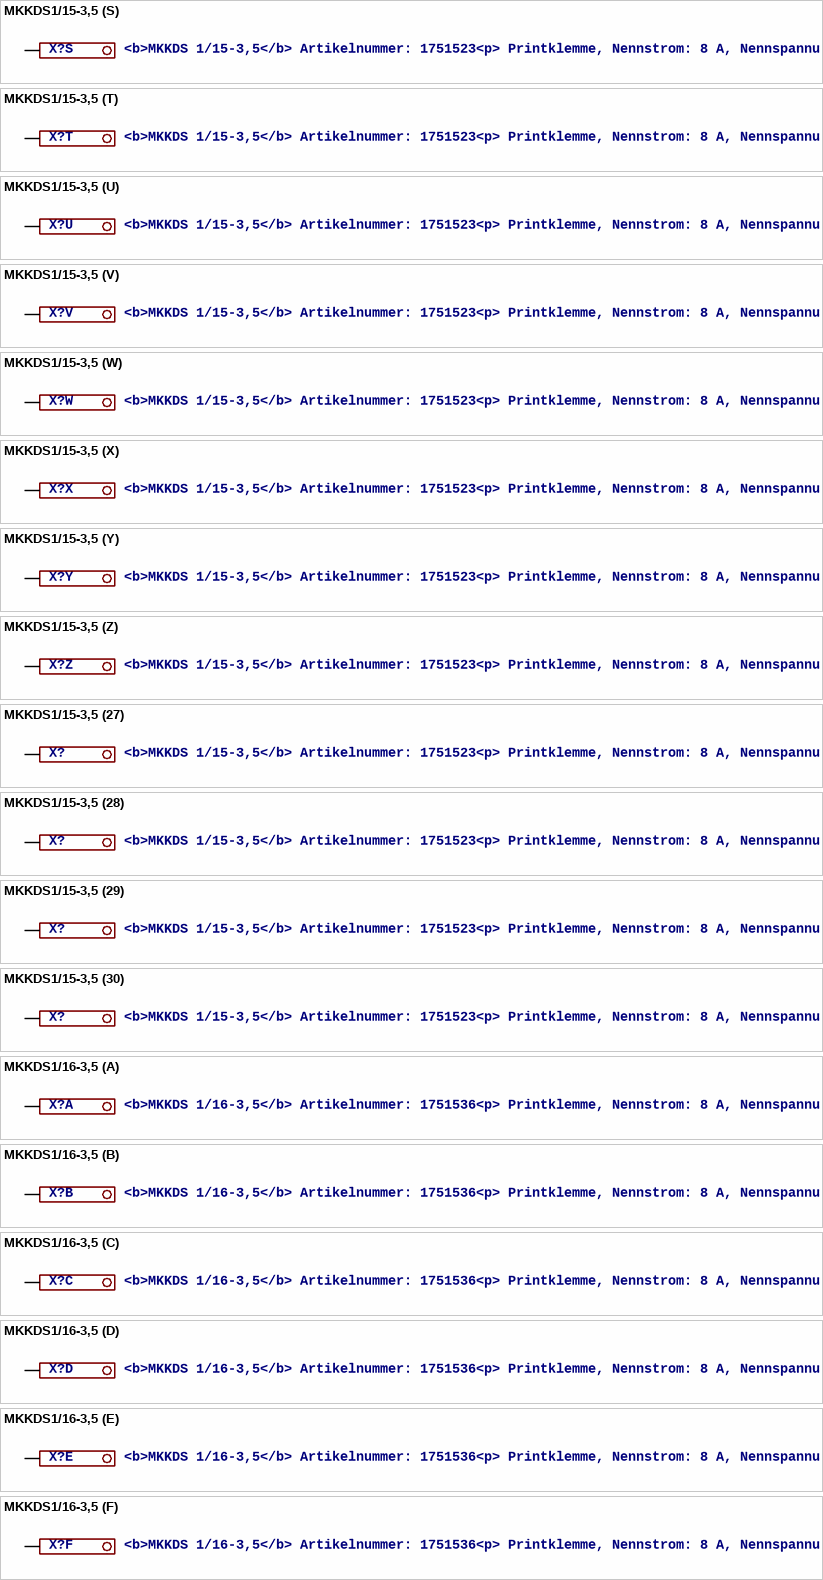
[diagram p15: symbols MKKDS1/15-3,5 to MKKDS1/16-3,5]

## MKKDS1/15-3,5
designator X?, comment <b>MKKDS 1/15-3,5</b> Artikelnummer: 1751523<p> / Printklemme, Nennstrom: 8 A, Nennspannung: 200 V, Rastermaß: 3,5 mm, Polzahl: 13<br> / Anschlussart: Schraubanschluss, Montage: Löten, Anschlussrichtung Leiter/Platine: 0 °, Farbe: grün<br> / <a href="http://www.phoenixcontact.de/"> Home page </a>
footprint MKKDS1/15-3,5
part A pins: 1 K
part B pins: 2 K
part C pins: 3 K
part D pins: 4 K
part E pins: 5 K
part F pins: 6 K
part G pins: 7 K
part H pins: 8 K
part I pins: 9 K
part J pins: 10 K
part K pins: 11 K
part L pins: 12 K
part M pins: 13 K
part N pins: 14 K
part O pins: 15 K
part P pins: 16 K
part Q pins: 17 K
part R pins: 18 K
part S pins: 19 K
part T pins: 20 K
part U pins: 21 K
part V pins: 22 K
part W pins: 23 K
part X pins: 24 K
part Y pins: 25 K
part Z pins: 26 K
part 27 pins: 27 K
part 28 pins: 28 K
part 29 pins: 29 K
part 30 pins: 30 K

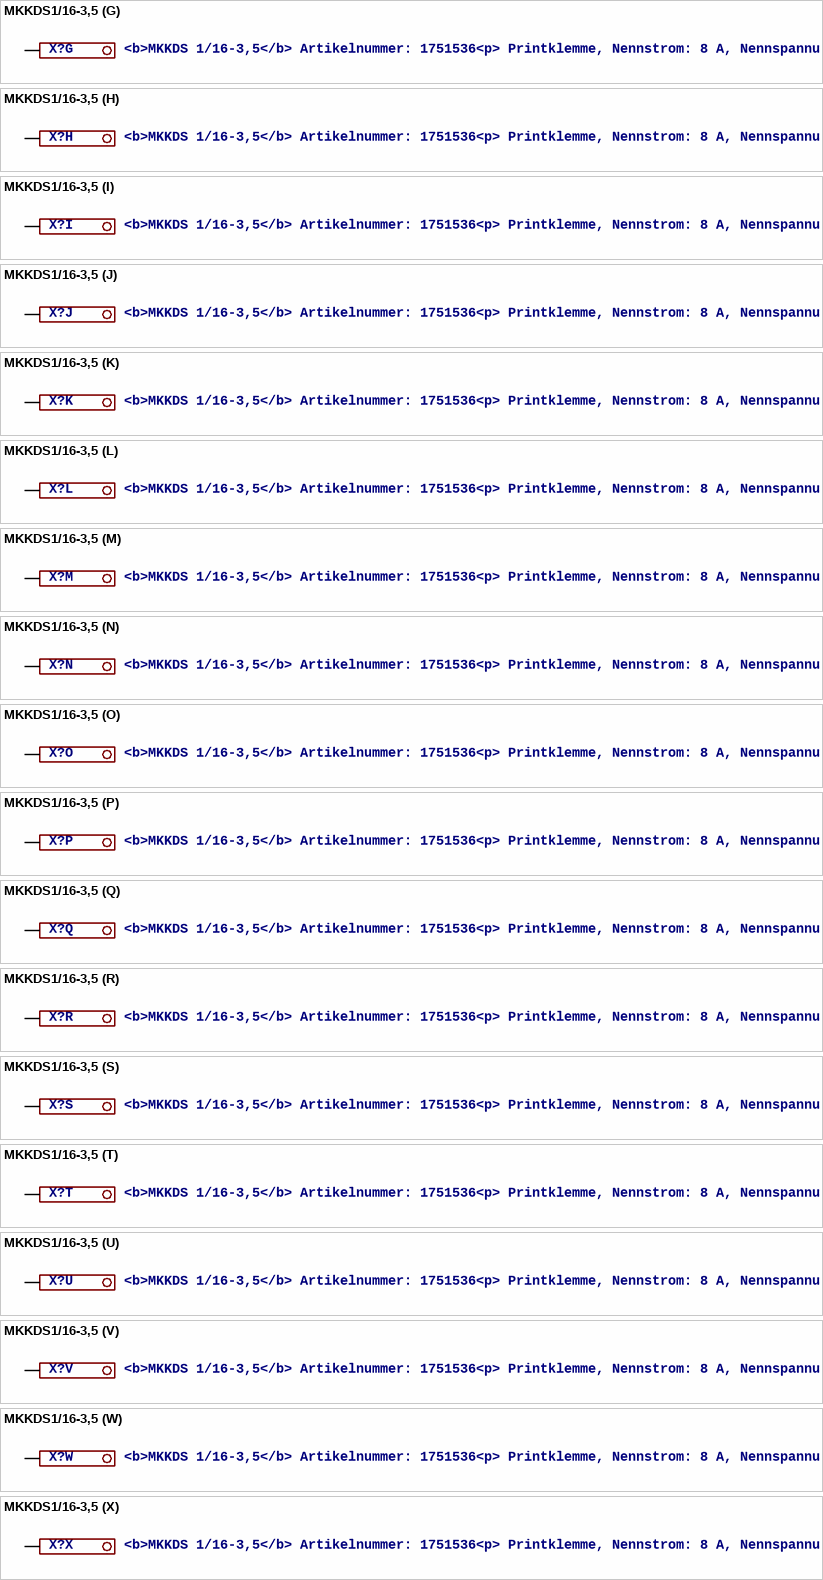
[diagram p16: symbol MKKDS1/16-3,5]

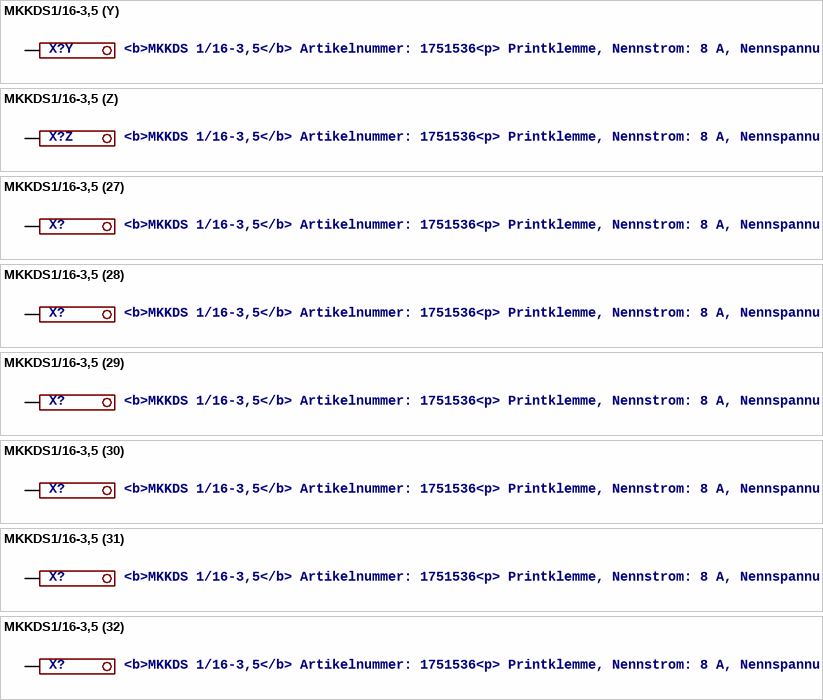
[diagram p17: symbol MKKDS1/16-3,5]

## MKKDS1/16-3,5
designator X?, comment <b>MKKDS 1/16-3,5</b> Artikelnummer: 1751536<p> / Printklemme, Nennstrom: 8 A, Nennspannung: 200 V, Rastermaß: 3,5 mm, Polzahl: 13<br> / Anschlussart: Schraubanschluss, Montage: Löten, Anschlussrichtung Leiter/Platine: 0 °, Farbe: grün<br> / <a href="http://www.phoenixcontact.de/"> Home page </a>
footprint MKKDS1/16-3,5
part A pins: 1 K
part B pins: 2 K
part C pins: 3 K
part D pins: 4 K
part E pins: 5 K
part F pins: 6 K
part G pins: 7 K
part H pins: 8 K
part I pins: 9 K
part J pins: 10 K
part K pins: 11 K
part L pins: 12 K
part M pins: 13 K
part N pins: 14 K
part O pins: 15 K
part P pins: 16 K
part Q pins: 17 K
part R pins: 18 K
part S pins: 19 K
part T pins: 20 K
part U pins: 21 K
part V pins: 22 K
part W pins: 23 K
part X pins: 24 K
part Y pins: 25 K
part Z pins: 26 K
part 27 pins: 27 K
part 28 pins: 28 K
part 29 pins: 29 K
part 30 pins: 30 K
part 31 pins: 31 K
part 32 pins: 32 K